# Altium footprint library PcbLib1.PcbLib: 32 footprints (part 2 of 2)
Each footprint in its own frame and in the unit in brackets; x right, y up, seen from the top. Pads: shape width x height; smd on the part's side, far side on the other; paste and mask are expansions set on the pad; w line width, h text height; cw(c..) or ccw(c..) is an arc to the next point about the centre after c.
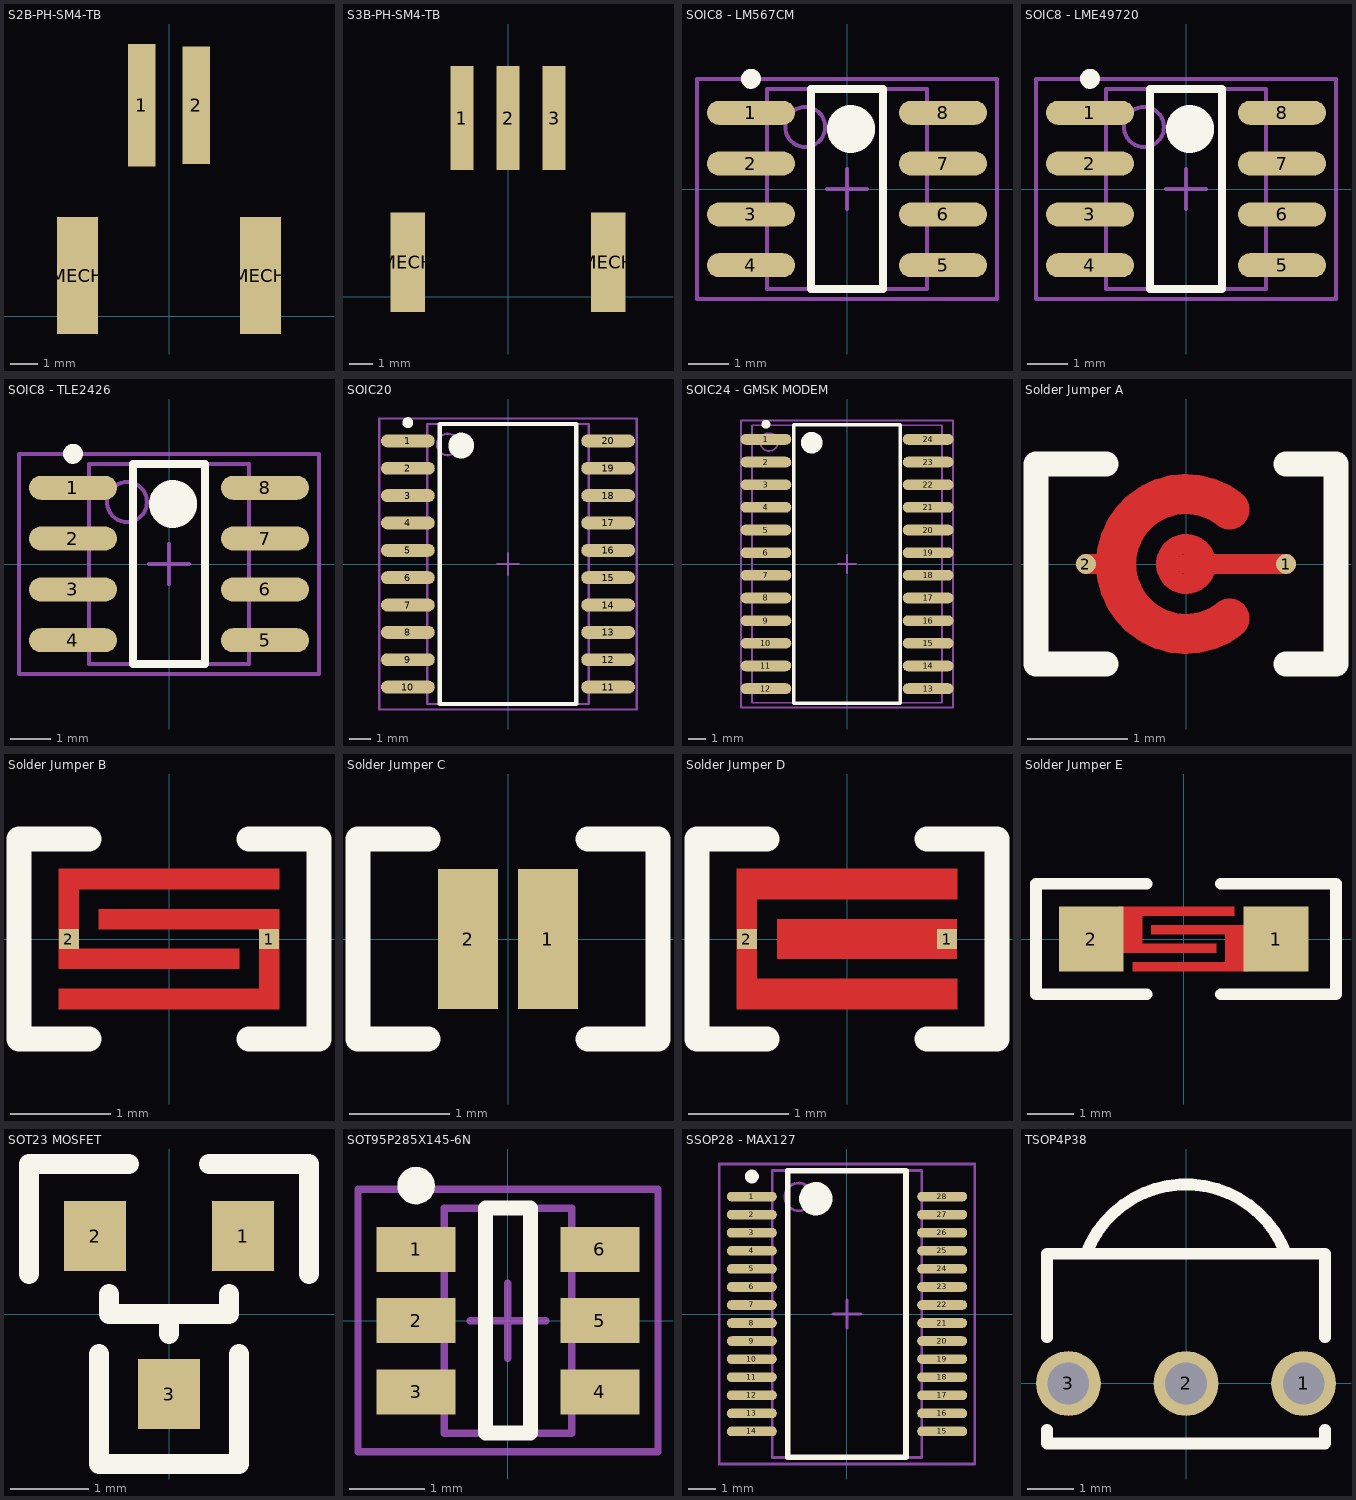
[diagram p1: the footprints below, top view; thin cyan lines are the x and y axes]

## S2B-PH-SM4-TB [mm]
pads (4):
  rect 1x4.5 smd: 1(-1,7.75)
  rect 1x4.3 smd: 2(1,7.75)
  rect 1.5x4.3 smd: MECH(-3.35,1.5) MECH(3.35,1.5)
3D body: height 5.5, standoff -0.1, extent -3.95,-0.1 3.95,8.5

## S3B-PH-SM4-TB [mm]
pads (5):
  rect 1x4.5 smd: 1(-2,7.75) 2(0,7.75) 3(2,7.75)
  rect 1.5x4.3 smd: MECH(-4.35,1.5) MECH(4.35,1.5)
3D body: height 5.5, standoff -0.1, extent -4.95,0.2 4.95,8.8

## SOIC8 - LM567CM [mm] "SOIC, 8-Leads, Body 5.0x4.0mm (max), Pitch 1.27mm, IPC Medium Density"
height 1.753
pads (8):
  oval 2.2x0.6 smd: 1(-2.4,1.905) 2(-2.4,0.635) 3(-2.4,-0.635) 4(-2.4,-1.905) 5(2.4,-1.905) 6(2.4,-0.635) 7(2.4,0.635) 8(2.4,1.905)
Top Overlay:
  circle w0.25: c-2.4,2.755 r0.125
  circle w0.6: c0.1,1.5 r0.3
  lines w0.2: -0.9,-2.5 -0.9,2.5 0.9,2.5 0.9,-2.5 -0.9,-2.5
Mechanical 13:
  circle w0.1: c-1.045,1.55 r0.5
  lines w0.1: -1.995,-2.5 -1.995,2.5 1.995,2.5 1.995,-2.5 -1.995,-2.5
Mechanical 15:
  lines w0.1: -0.5,0 0.5,0 ; 0,-0.5 0,0.5 ; -3.75,-2.75 -3.75,2.75 3.75,2.75 3.75,-2.75 -3.75,-2.75
3D body: height 1.75, standoff 0.1, extent -1.995,-2.5 1.995,2.5

## SOIC8 - LME49720 [mm]
height 1.5
pads (8):
  oval 2.2x0.6 smd: 1(-2.4,1.905) 2(-2.4,0.635) 3(-2.4,-0.635) 4(-2.4,-1.905) 5(2.4,-1.905) 6(2.4,-0.635) 7(2.4,0.635) 8(2.4,1.905)
Top Overlay:
  circle w0.25: c-2.4,2.755 r0.125
  circle w0.6: c0.1,1.5 r0.3
  lines w0.2: -0.9,-2.5 -0.9,2.5 0.9,2.5 0.9,-2.5 -0.9,-2.5
Mechanical 13:
  circle w0.1: c-1.05,1.55 r0.5
  lines w0.1: -2,-2.5 -2,2.5 2,2.5 2,-2.5 -2,-2.5
Mechanical 15:
  lines w0.1: -0.5,0 0.5,0 ; 0,-0.5 0,0.5 ; -3.75,-2.75 -3.75,2.75 3.75,2.75 3.75,-2.75 -3.75,-2.75
3D body: height 1.5, standoff 0.1, extent -2,-2.5 2,2.5

## SOIC8 - TLE2426 [mm] "SOIC, 8-Leads, Body 5.0x4.0mm (max), Pitch 1.27mm, IPC Medium Density"
height 1.75
pads (8):
  oval 2.2x0.6 smd: 1(-2.4,1.905) 2(-2.4,0.635) 3(-2.4,-0.635) 4(-2.4,-1.905) 5(2.4,-1.905) 6(2.4,-0.635) 7(2.4,0.635) 8(2.4,1.905)
Top Overlay:
  circle w0.6: c0.1,1.5 r0.3
  circle w0.25: c-2.4,2.755 r0.125
  lines w0.2: -0.9,-2.5 0.9,-2.5 0.9,2.5 -0.9,2.5 -0.9,-2.5
Mechanical 13:
  circle w0.1: c-1.05,1.55 r0.5
  lines w0.1: -2,-2.5 2,-2.5 2,2.5 -2,2.5 -2,-2.5
Mechanical 15:
  lines w0.1: -0.5,0 0.5,0 ; 0,-0.5 0,0.5 ; -3.75,-2.75 3.75,-2.75 3.75,2.75 -3.75,2.75 -3.75,-2.75
3D body: height 1.75, standoff 0.1, extent -2,-2.5 2,2.5

## SOIC20 [mm] "SOIC, 20-Leads, Body 13.0x7.5mm (max), Pitch 1.27mm, IPC Medium Density"
height 2.65
pads (20):
  oval 2.5x0.6 smd: 1(-4.65,5.715) 2(-4.65,4.445) 3(-4.65,3.175) 4(-4.65,1.905) 5(-4.65,0.635) 6(-4.65,-0.635) 7(-4.65,-1.905) 8(-4.65,-3.175) 9(-4.65,-4.445) 10(-4.65,-5.715) 11(4.65,-5.715) 12(4.65,-4.445) 13(4.65,-3.175) 14(4.65,-1.905) 15(4.65,-0.635) 16(4.65,0.635) 17(4.65,1.905) 18(4.65,3.175) 19(4.65,4.445) 20(4.65,5.715)
Top Overlay:
  circle w0.6: c-2.175,5.5 r0.3
  circle w0.25: c-4.65,6.565 r0.125
  lines w0.2: -3.175,-6.5 3.175,-6.5 3.175,6.5 -3.175,6.5 -3.175,-6.5
Mechanical 13:
  circle w0.1: c-2.8,5.55 r0.5
  lines w0.1: -3.75,-6.5 3.75,-6.5 3.75,6.5 -3.75,6.5 -3.75,-6.5
Mechanical 15:
  lines w0.1: -0.5,0 0.5,0 ; 0,-0.5 0,0.5 ; -5.975,-6.75 5.975,-6.75 5.975,6.75 -5.975,6.75 -5.975,-6.75
3D body: height 2.65, standoff 0.1, extent -3.75,-6.5 3.75,6.5

## SOIC24 - GMSK MODEM [mm] "SOIC, 24-Leads, Body 15.6x10.6mm (max), Pitch 1.27mm, IPC Medium Density"
height 2.67
pads (24):
  oval 2.85x0.6 smd: 1(-4.55,6.985) 2(-4.55,5.715) 3(-4.55,4.445) 4(-4.55,3.175) 5(-4.55,1.905) 6(-4.55,0.635) 7(-4.55,-0.635) 8(-4.55,-1.905) 9(-4.55,-3.175) 10(-4.55,-4.445) 11(-4.55,-5.715) 12(-4.55,-6.985) 13(4.55,-6.985) 14(4.55,-5.715) 15(4.55,-4.445) 16(4.55,-3.175) 17(4.55,-1.905) 18(4.55,-0.635) 19(4.55,0.635) 20(4.55,1.905) 21(4.55,3.175) 22(4.55,4.445) 23(4.55,5.715) 24(4.55,6.985)
Top Overlay:
  circle w0.25: c-4.55,7.835 r0.125
  circle w0.6: c-1.975,6.8 r0.3
  lines w0.2: -2.975,-7.8 -2.975,7.8 2.975,7.8 2.975,-7.8 -2.975,-7.8
Mechanical 13:
  circle w0.1: c-4.37,6.835 r0.5
  lines w0.1: -5.32,-7.785 -5.32,7.785 5.32,7.785 5.32,-7.785 -5.32,-7.785
Mechanical 15:
  lines w0.1: -0.5,0 0.5,0 ; 0,-0.5 0,0.5 ; -5.95,-8.05 -5.95,8.05 5.95,8.05 5.95,-8.05 -5.95,-8.05
3D body: height 2.67, standoff 0.08, extent -5.32,-7.785 5.32,7.785

## Solder Jumper A [mm] "Solder Jumper A"
pads (2):
  round 0.2 smd: 1(1,0) 2(-1,0)
Top Layer:
  circle w0.2: c0,0 r0.2
  lines w0.2: -1,0 -0.7,0 ; 0,0 1,0
  lines w0.4: 0.437,-0.547 cw(c0,0) 0.437,0.547
Top Overlay:
  lines w0.254: -0.8,-1 -1.5,-1 -1.5,1 -0.8,1 ; 1,-1 1.5,-1 1.5,1 1,1
Top Solder:
  circle w1: c0,0 r0.5

## Solder Jumper B [mm] "Solder Jumper B"
pads (2):
  rect 0.2x0.2 smd: 1(1,0) 2(-1,0)
Top Layer:
  region: 1.1,0.5 1.1,0.7 -1.1,0.7 -1.1,-0.3 0.7,-0.3 0.7,-0.1 -0.9,-0.1 -0.9,0.5
  region: -0.7,0.3 -0.7,0.1 0.9,0.1 0.9,-0.5 -1.1,-0.5 -1.1,-0.7 1.1,-0.7 1.1,0.3
Top Overlay:
  lines w0.254: -0.8,-1 -1.5,-1 -1.5,1 -0.8,1 ; 0.8,-1 1.5,-1 1.5,1 0.8,1
Top Solder:
  region: 1.2,0.8 1.2,-0.8 -1.2,-0.8 -1.2,0.8

## Solder Jumper C [mm] "Solder Jumper C"
pads (2):
  rect 0.6x1.4 smd: 1(0.4,0) 2(-0.4,0)
Top Overlay:
  lines w0.254: -0.8,-1 -1.5,-1 -1.5,1 -0.8,1 ; 0.8,-1 1.5,-1 1.5,1 0.8,1
Top Solder:
  region: -0.8,0.8 -0.8,-0.8 0.8,-0.8 0.8,0.8

## Solder Jumper D [mm] "Solder Jumper D"
pads (2):
  rect 0.2x0.2 smd: 1(1,0) 2(-1,0)
Top Layer:
  rectangle: -0.7,-0.2 1.1,0.2
  region: 1.1,0.4 1.1,0.7 -1.1,0.7 -1.1,-0.7 1.1,-0.7 1.1,-0.4 -0.9,-0.4 -0.9,0.4
Top Overlay:
  lines w0.254: -0.8,-1 -1.5,-1 -1.5,1 -0.8,1 ; 0.8,-1 1.5,-1 1.5,1 0.8,1
Top Solder:
  region: 1.2,0.8 1.2,-0.8 -1.2,-0.8 -1.2,0.8

## Solder Jumper E [mm] "Solder Jumper E"
pads (2):
  rect 1.4x1.4 smd: 1(2,0) 2(-2,0)
Top Layer:
  region: -0.7,0.3 -0.7,0.1 0.9,0.1 0.9,-0.5 -1.1,-0.5 -1.1,-0.7 1.4,-0.7 1.4,0.3
  region: -1.4,0.7 1.1,0.7 1.1,0.5 -0.9,0.5 -0.9,-0.1 0.7,-0.1 0.7,-0.3 -1.4,-0.3
Top Overlay:
  lines w0.254: -0.8,-1.2 -3.2,-1.2 -3.2,1.2 -0.8,1.2 ; 0.8,-1.2 3.3,-1.2 3.3,1.2 0.8,1.2
Top Solder:
  region: 1.5,0.8 1.5,-0.8 -1.5,-0.8 -1.5,0.8

## SOT23 MOSFET [mil]
pads (3):
  rect 31x35 smd: 1(37,39) 2(-37,39) 3(0,-40)
Top Overlay:
  lines w10: -70,20 -70,75 -20,75 ; -35,-20 -35,-75 35,-75 35,-20 ; -30,10 -30,0 30,0 30,10 ; 0,-10 0,0 ; 20,75 70,75 70,20

## SOT95P285X145-6N [mm] "SOT23, 6-Leads, Body 3.0x3.0mm (max), Pitch 0.95mm, IPC Medium Density"
height 1.45
pads (6):
  rect 1.05x0.6 smd: 1(-1.225,0.95) 2(-1.225,0) 3(-1.225,-0.95) 4(1.225,-0.95) 5(1.225,0) 6(1.225,0.95)
Top Overlay:
  circle w0.25: c-1.225,1.8 r0.125
  lines w0.2: -0.3,-1.5 0.3,-1.5 0.3,1.5 -0.3,1.5 -0.3,-1.5
Mechanical 13:
  lines w0.1: -0.85,-1.5 -0.85,1.5 0.85,1.5 0.85,-1.5 -0.85,-1.5
Mechanical 15:
  lines w0.1: -0.5,0 0.5,0 ; 0,-0.5 0,0.5 ; -2,-1.75 -2,1.75 2,1.75 2,-1.75 -2,-1.75
3D body: height 1.45, standoff 0.05, extent -0.85,-1.5 0.85,1.5

## SSOP28 - MAX127 [mm] "SOP, 28-Leads, Body 10.3x5.4mm (max), Pitch 0.65mm, IPC Medium Density"
height 1.99
pads (28):
  oval 1.8x0.35 smd: 1(-3.425,4.225) 2(-3.425,3.575) 3(-3.425,2.925) 4(-3.425,2.275) 5(-3.425,1.625) 6(-3.425,0.975) 7(-3.425,0.325) 8(-3.425,-0.325) 9(-3.425,-0.975) 10(-3.425,-1.625) 11(-3.425,-2.275) 12(-3.425,-2.925) 13(-3.425,-3.575) 14(-3.425,-4.225) 15(3.425,-4.225) 16(3.425,-3.575) 17(3.425,-2.925) 18(3.425,-2.275) 19(3.425,-1.625) 20(3.425,-0.975) 21(3.425,-0.325) 22(3.425,0.325) 23(3.425,0.975) 24(3.425,1.625) 25(3.425,2.275) 26(3.425,2.925) 27(3.425,3.575) 28(3.425,4.225)
Top Overlay:
  circle w0.6: c-1.125,4.15 r0.3
  circle w0.25: c-3.425,4.95 r0.125
  lines w0.2: -2.125,-5.15 2.125,-5.15 2.125,5.15 -2.125,5.15 -2.125,-5.15
Mechanical 13:
  circle w0.1: c-1.74,4.215 r0.5
  lines w0.1: -2.69,-5.165 2.69,-5.165 2.69,5.165 -2.69,5.165 -2.69,-5.165
Mechanical 15:
  lines w0.1: -0.5,0 0.5,0 ; 0,-0.5 0,0.5 ; -4.6,-5.4 4.6,-5.4 4.6,5.4 -4.6,5.4 -4.6,-5.4
3D body: height 1.99, standoff 0.1, extent -2.69,-5.165 2.69,5.165

## TSOP4P38 [mm]
pads (3):
  round 1.4 hole 0.9: 1(2.54,0) 2(0,0) 3(-2.54,0)
Top Overlay:
  lines w0.254: -3,-1 -3,-1.3 3,-1.3 3,-1 ; -3,1 -3,2.8 3,2.8 3,1 ; -2.149,2.819 cw(c0,2) 2.149,2.819